# Altium footprint library Trimmer 1K.PcbLib: 1 footprints
Each footprint in its own frame and in the unit in brackets; x right, y up, seen from the top. Pads: shape width x height; smd on the part's side, far side on the other; paste and mask are expansions set on the pad; w line width, h text height; cw(c..) or ccw(c..) is an arc to the next point about the centre after c.
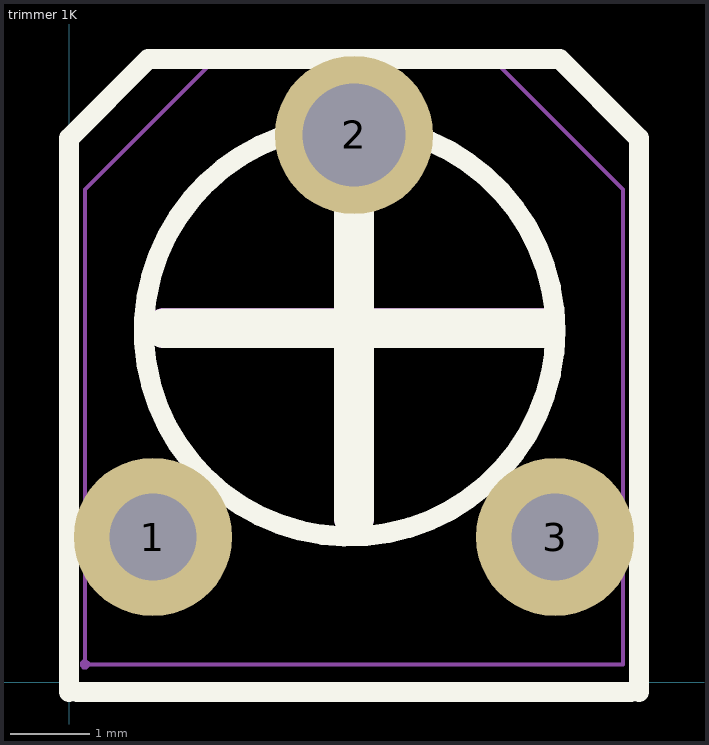
[diagram p0: the footprint, top view; thin cyan lines are the x and y axes]

## trimmer 1K [mm]
pads (3):
  round 2 hole 1.1 paste-2539.97 mask+0.051: 1(1.06,1.833) 3(6.14,1.833)
  round 2 hole 1.3 paste-2539.97 mask+0.051: 2(3.6,6.913)
Top Overlay:
  circle w0.254: c3.545,4.439 r2.6
  lines w0.254: 0,-0.127 0,3.873 ; 0.001,3.873 0,6.873 1,7.873 1.2,7.873 3.6,7.873 6,7.873 ; 0.1,-0.127 3.6,-0.127 7.1,-0.127 ; 5.8,7.873 6.2,7.873 7.2,6.873 7.199,3.873 7.2,-0.127
  lines w0.5: 1.2,4.473 6,4.473 ; 3.6,2.073 3.6,6.873
Mechanical 6:
  region: 1.2,4.723 6,4.723 6.05,4.723 6.142,4.685 6.212,4.615 6.25,4.523 6.25,4.423 6.212,4.331 6.142,4.261 6.05,4.223 6,4.223 1.2,4.223 1.15,4.223 1.058,4.261 0.988,4.331 0.95,4.423 0.95,4.523 0.988,4.615 1.058,4.685 1.15,4.723 1.2,4.723
  region: 3.35,2.073 3.35,6.873 3.35,6.923 3.388,7.015 3.458,7.085 3.55,7.123 3.65,7.123 3.742,7.085 3.812,7.015 3.85,6.923 3.85,6.873 3.85,2.073 3.85,2.023 3.812,1.931 3.742,1.861 3.65,1.823 3.55,1.823 3.458,1.861 3.388,1.931 3.35,2.023 3.35,2.073
Mechanical 15:
  region: 0.26,0.224 0.26,0.249 0.225,0.284 0.175,0.284 0.14,0.249 0.14,0.224 0.14,0.199 0.175,0.164 0.225,0.164 0.26,0.199 0.26,0.224
  region: 0.91,1.533 0.91,2.133 1.21,2.133 1.21,1.533
  region: 5.99,1.533 5.99,2.133 6.29,2.133 6.29,1.533
  region: 3.45,6.613 3.45,7.213 3.75,7.213 3.75,6.613
  lines w0.051: 0.2,0.224 0.2,6.224 1.8,7.823 5.4,7.823 7,6.224 7,0.224 0.2,0.224